# Altium schematic symbol library DT.SchLib: 8 symbols
Pins are listed as number, name and electrical type; pins without a type are passive.

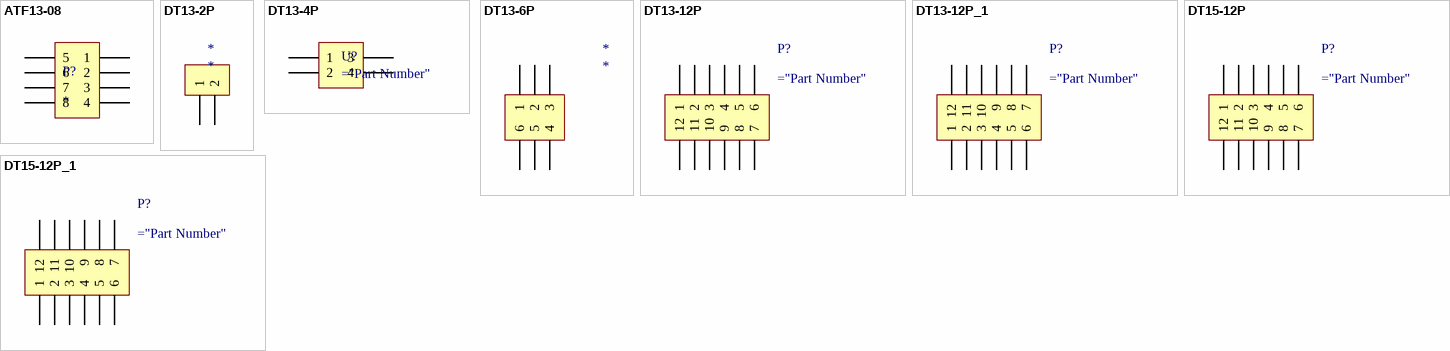
[diagram p0: symbols ATF13-08 to DT15-12P_1]

## ATF13-08
designator P?
pins: 1 (power) "Serial Data Input", 2 (power) "Serial Data Input", 3 (power) "Serial Data Input", 4 (power) "Serial Data Input", 5 (power) "Serial Data Input", 6 (power) "Serial Data Input", 7, 8

## DT13-2P
designator *
pins: 1, 2

## DT13-4P
designator U?
pins: 1 (power) "Serial Data Input", 2 (power) "Serial Data Input", 3, 4

## DT13-6P
designator *
pins: 1 (power) "Serial Data Input", 2 (power) "Serial Data Input", 3 (power) "Serial Data Input", 4, 5, 6

## DT13-12P
designator P?
pins: 1 (power) "Serial Data Input", 2 (power) "Serial Data Input", 3 (power) "Serial Data Input", 4 (power) "Serial Data Input", 5 (power) "Serial Data Input", 6 (power) "Serial Data Input", 7, 8, 9, 10, 11, 12

## DT13-12P_1
designator P?
pins: 1 (power) "Serial Data Input", 2 (power) "Serial Data Input", 3 (power) "Serial Data Input", 4 (power) "Serial Data Input", 5 (power) "Serial Data Input", 6 (power) "Serial Data Input", 7, 8, 9, 10, 11, 12

## DT15-12P
designator P?
pins: 1 (power) "Serial Data Input", 2 (power) "Serial Data Input", 3 (power) "Serial Data Input", 4 (power) "Serial Data Input", 5 (power) "Serial Data Input", 6 (power) "Serial Data Input", 7, 8, 9, 10, 11, 12

## DT15-12P_1
designator P?
pins: 1 (power) "Serial Data Input", 2 (power) "Serial Data Input", 3 (power) "Serial Data Input", 4 (power) "Serial Data Input", 5 (power) "Serial Data Input", 6 (power) "Serial Data Input", 7, 8, 9, 10, 11, 12